# EAGLE library part TPS7A49 (library CMU-ArtFab)
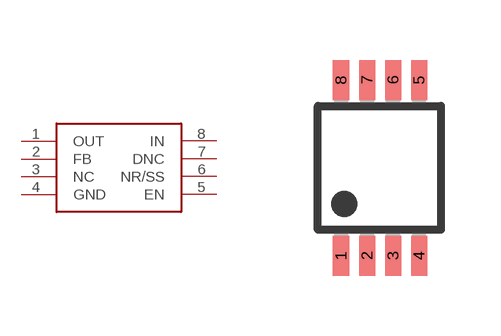
[diagram p35: symbol with the pads of MSOP-8; footprint MSOP-8]

Designator prefix IC

## TPS7A49  [MSOP-8]
1  OUT
2  FB
3  NC
4  GND
5  EN
6  NR/SS
7  DNC
8  IN

## Footprint MSOP-8 (pad centres in mm)
8-Pin MSOP (DGK) Package Source: DGK (S-PDSO-G8) <http://www.ti.com/lit/ml/mpds028d/mpds028d.pdf>
smd 0.4 x 1: 1 -0.975,-2.2; 2 -0.325,-2.2; 3 0.325,-2.2; 4 0.975,-2.2; 5 0.975,2.2; 6 0.325,2.2; 7 -0.325,2.2; 8 -0.975,2.2